# EAGLE library part DUAL_N_SI6926ADQ (library stepOSP)
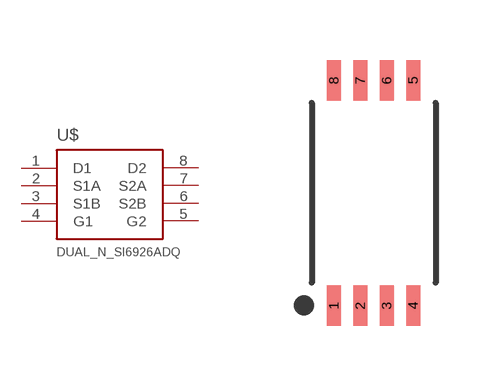
[diagram p41: symbol with the pads of TSSOP-8; footprint TSSOP-8]

Designator prefix U$

## DUAL_N_SI6926ADQ  [TSSOP-8]
1  D1
2  S1A
3  S1B
4  G1
5  G2
6  S2B
7  S2A
8  D2

## Footprint TSSOP-8 (pad centres in mm)
smd 0.356 x 1.016: 1 -0.992,-2.82; 2 -0.331,-2.82; 3 0.331,-2.82; 4 0.992,-2.82; 5 0.992,2.82; 6 0.331,2.82; 7 -0.331,2.82; 8 -0.992,2.82